# EAGLE library part LL7401 (library lundahl)
LL7401
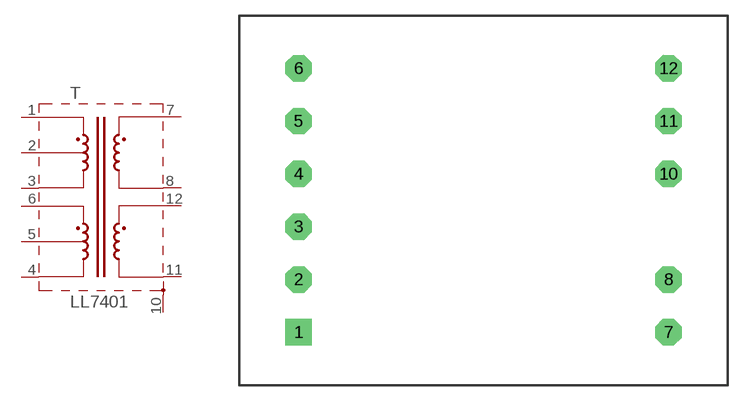
[diagram p14: symbol with the pads of LL7401; footprint LL7401]

Designator prefix T

## LL7401  [LL7401]
1  1  pas
2  2  pas
3  3  pas
4  4  pas
5  5  pas
6  6  pas
7  7  pas
8  8  pas
10  10  pas
11  11  pas
12  12  pas

## Footprint LL7401 (pad centres in mm)
LL7401
drill 1.422 pad 2.54 square: 1 -17.78,-12.7
drill 1.422 pad 2.54 octagon: 2 -17.78,-7.62; 3 -17.78,-2.54; 4 -17.78,2.54; 5 -17.78,7.62; 6 -17.78,12.7; 7 17.78,-12.7; 8 17.78,-7.62; 10 17.78,2.54; 11 17.78,7.62; 12 17.78,12.7